# EAGLE library part 61205022021 (library Wurth_Elektronik_Electromechanic_Wire_to_Board_Connectors_rev16a)
WR-BHD 2.54mm Male Box Header With Lever, 50 Pins=>Code : Con_WTB_BHD_2.54_Male_THT_WS_61205022021 <http://katalog.we-online.de/media/thumbs2/eican/thb_Con_WTB_BHD_2.54_Male_THT_WS_6120xx22021_pf2.jpg> Details see: http://katalog.we-online.de/en/em/612_0xx_220_21 Created 2014-06-05, Karrer Zheng 2014 (C) Würth Elektronik
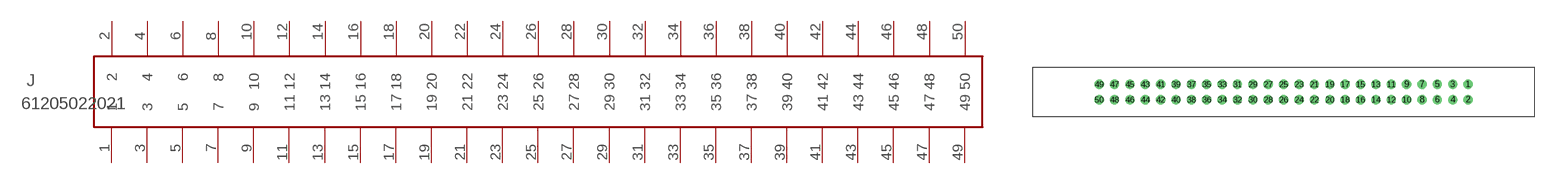
[diagram p195: symbol with the pads of 61205022021; footprint 61205022021]

Designator prefix J

## 61205022021  [61205022021]
1  1  pas
2  2  pas
3  3  pas
4  4  pas
5  5  pas
6  6  pas
7  7  pas
8  8  pas
9  9  pas
10  10  pas
11  11  pas
12  12  pas
13  13  pas
14  14  pas
15  15  pas
16  16  pas
17  17  pas
18  18  pas
19  19  pas
20  20  pas
21  21  pas
22  22  pas
23  23  pas
24  24  pas
25  25  pas
26  26  pas
27  27  pas
28  28  pas
29  29  pas
30  30  pas
31  31  pas
32  32  pas
33  33  pas
34  34  pas
35  35  pas
36  36  pas
37  37  pas
38  38  pas
39  39  pas
40  40  pas
41  41  pas
42  42  pas
43  43  pas
44  44  pas
45  45  pas
46  46  pas
47  47  pas
48  48  pas
49  49  pas
50  50  pas

## Footprint 61205022021 (pad centres in mm)
WR-BHD 2.54mm Male Box Header With Lever, 50 Pins
drill 1.02: 1 30.48,1.27; 2 30.48,-1.27; 3 27.94,1.27; 4 27.94,-1.27; 5 25.4,1.27; 6 25.4,-1.27; 7 22.86,1.27; 8 22.86,-1.27; 9 20.32,1.27; 10 20.32,-1.27; 11 17.78,1.27; 12 17.78,-1.27; 13 15.24,1.27; 14 15.24,-1.27; 15 12.7,1.27; 16 12.7,-1.27; 17 10.16,1.27; 18 10.16,-1.27; 19 7.62,1.27; 20 7.62,-1.27; 21 5.08,1.27; 22 5.08,-1.27; 23 2.54,1.27; 24 2.54,-1.27; 25 0,1.27; 26 0,-1.27; 27 -2.54,1.27; 28 -2.54,-1.27; 29 -5.08,1.27; 30 -5.08,-1.27; 31 -7.62,1.27; 32 -7.62,-1.27; 33 -10.16,1.27; 34 -10.16,-1.27; 35 -12.7,1.27; 36 -12.7,-1.27; 37 -15.24,1.27; 38 -15.24,-1.27; 39 -17.78,1.27; 40 -17.78,-1.27; 41 -20.32,1.27; 42 -20.32,-1.27; 43 -22.86,1.27; 44 -22.86,-1.27; 45 -25.4,1.27; 46 -25.4,-1.27; 47 -27.94,1.27; 48 -27.94,-1.27; 49 -30.48,1.27; 50 -30.48,-1.27